# EAGLE library part 613072243121 (library Wuerth_Elektronik_eiCan_Pin_&_Socked_Headers_v1.3)
WR-PHD Angled Dual Socket Header, 72 Pins
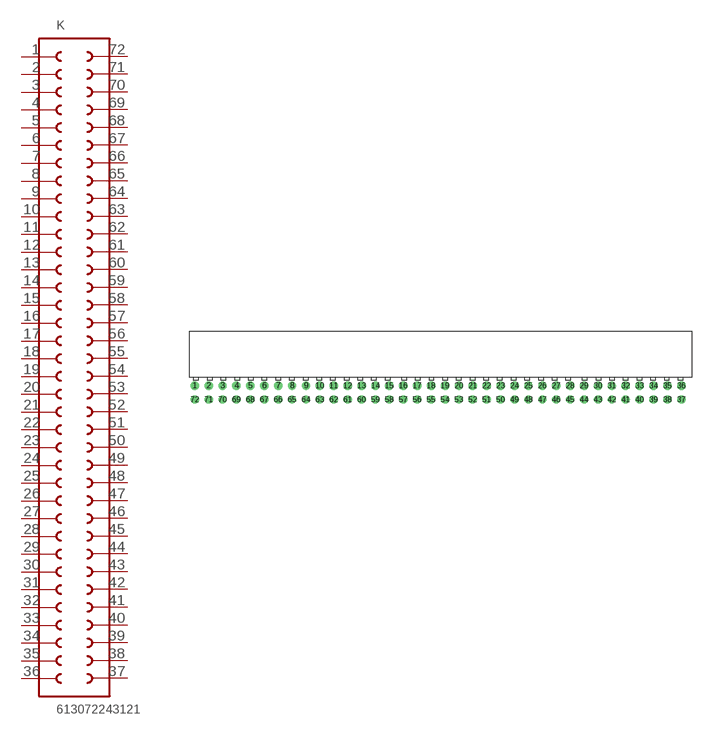
[diagram p185: symbol with the pads of 613072243121; footprint 613072243121]

Designator prefix K

## 613072243121  [613072243121]
1  1  pas
2  2  pas
3  3  pas
4  4  pas
5  5  pas
6  6  pas
7  7  pas
8  8  pas
9  9  pas
10  10  pas
11  11  pas
12  12  pas
13  13  pas
14  14  pas
15  15  pas
16  16  pas
17  17  pas
18  18  pas
19  19  pas
20  20  pas
21  21  pas
22  22  pas
23  23  pas
24  24  pas
25  25  pas
26  26  pas
27  27  pas
28  28  pas
29  29  pas
30  30  pas
31  31  pas
32  32  pas
33  33  pas
34  34  pas
35  35  pas
36  36  pas
37  37  pas
38  38  pas
39  39  pas
40  40  pas
41  41  pas
42  42  pas
43  43  pas
44  44  pas
45  45  pas
46  46  pas
47  47  pas
48  48  pas
49  49  pas
50  50  pas
51  51  pas
52  52  pas
53  53  pas
54  54  pas
55  55  pas
56  56  pas
57  57  pas
58  58  pas
59  59  pas
60  60  pas
61  61  pas
62  62  pas
63  63  pas
64  64  pas
65  65  pas
66  66  pas
67  67  pas
68  68  pas
69  69  pas
70  70  pas
71  71  pas
72  72  pas

## Footprint 613072243121 (pad centres in mm)
WR-PHD Angled Dual Socket Header, 72 Pins
drill 1.02 round: 1 -78.74,0; 2 -76.2,0; 3 -73.66,0; 4 -71.12,0; 5 -68.58,0; 6 -66.04,0; 7 -63.5,0; 8 -60.96,0; 9 -58.42,0; 10 -55.88,0; 11 -53.34,0; 12 -50.8,0; 13 -48.26,0; 14 -45.72,0; 15 -43.18,0; 16 -40.64,0; 17 -38.1,0; 18 -35.56,0; 19 -33.02,0; 20 -30.48,0; 21 -27.94,0; 22 -25.4,0; 23 -22.86,0; 24 -20.32,0; 25 -17.78,0; 26 -15.24,0; 27 -12.7,0; 28 -10.16,0; 29 -7.62,0; 30 -5.08,0; 31 -2.54,0; 32 0,0; 33 2.54,0; 34 5.08,0; 35 7.62,0; 36 10.16,0; 37 10.16,-2.54; 38 7.62,-2.54; 39 5.08,-2.54; 40 2.54,-2.54; 41 0,-2.54; 42 -2.54,-2.54; 43 -5.08,-2.54; 44 -7.62,-2.54; 45 -10.16,-2.54; 46 -12.7,-2.54; 47 -15.24,-2.54; 48 -17.78,-2.54; 49 -20.32,-2.54; 50 -22.86,-2.54; 51 -25.4,-2.54; 52 -27.94,-2.54; 53 -30.48,-2.54; 54 -33.02,-2.54; 55 -35.56,-2.54; 56 -38.1,-2.54; 57 -40.64,-2.54; 58 -43.18,-2.54; 59 -45.72,-2.54; 60 -48.26,-2.54; 61 -50.8,-2.54; 62 -53.34,-2.54; 63 -55.88,-2.54; 64 -58.42,-2.54; 65 -60.96,-2.54; 66 -63.5,-2.54; 67 -66.04,-2.54; 68 -68.58,-2.54; 69 -71.12,-2.54; 70 -73.66,-2.54; 71 -76.2,-2.54; 72 -78.74,-2.54